# Altium footprint library PCB - SOLID STATE RELAY - PANASONIC CxR10_CxR5.PcbLib: 1 footprints
Each footprint in its own frame and in the unit in brackets; x right, y up, seen from the top. Pads: shape width x height; smd on the part's side, far side on the other; paste and mask are expansions set on the pad; w line width, h text height; cw(c..) or ccw(c..) is an arc to the next point about the centre after c.
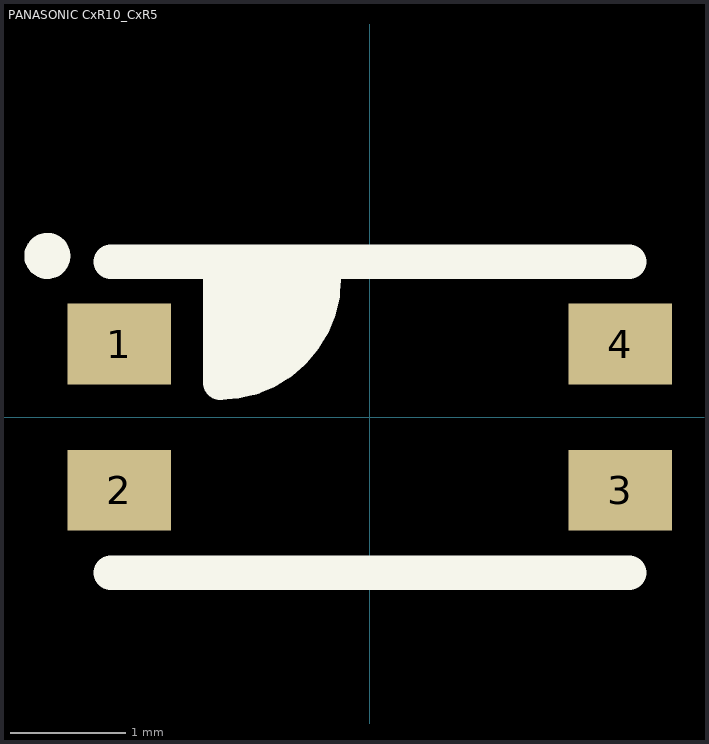
[diagram p0: the footprint, top view; thin cyan lines are the x and y axes]

## PANASONIC CxR10_CxR5 [mm]
height 1.8
pads (4):
  rect 0.9x0.7 smd: 1(-2.175,0.635) 2(-2.175,-0.635) 3(2.175,-0.635) 4(2.175,0.635)
Top Overlay:
  circle w0.2: c-2.8,1.4 r0.1
  region: -1.3,1.3 -0.406,1.3 -0.395,1.206 -0.414,1.017 -0.472,0.836 -0.566,0.671 -0.692,0.529 -0.846,0.417 -1.019,0.34 -1.205,0.3 -1.3,0.3
  lines w0.3: -2.25,-1.35 2.25,-1.35 ; -2.25,1.35 2.25,1.35 ; -1.3,1.3 -1.3,0.3 ccw(c-1.3,1.2) -0.4,1.2
3D body "PANASONIC CxR10_CxR5.step": height 1.8, standoff 0, extent -2.425,-1.325 2.425,1.325